# Altium schematic symbol library AD3541.SchLib: 1 symbol
Pins are listed as number, name and electrical type; pins without a type are passive.

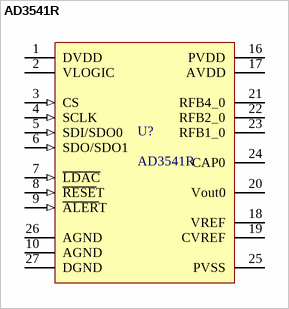
[diagram p0: symbol AD3541R]

## AD3541R
designator U?
pins: 1 DVDD (power), 2 VLOGIC (power), 3 CS (in), 4 SCLK (in), 5 SDI/SDO0 (in), 6 SDO/SDO1 (in), 7 ~{LDAC} (in), 8 ~{RESE}T (in), 9 ~{ALER}T (in), 10 AGND (power), 16 PVDD (power), 17 AVDD (power), 18 VREF (power), 19 CVREF (power), 20 Vout0 (power), 21 RFB4_0 (power), 22 RFB2_0 (power), 23 RFB1_0 (power), 24 CAP0 (power), 25 PVSS (power), 26 AGND (power), 27 DGND (power)